# Altium schematic symbol library Main.SchLib: 35 symbols
Pins are listed as number, name and electrical type; pins without a type are passive.

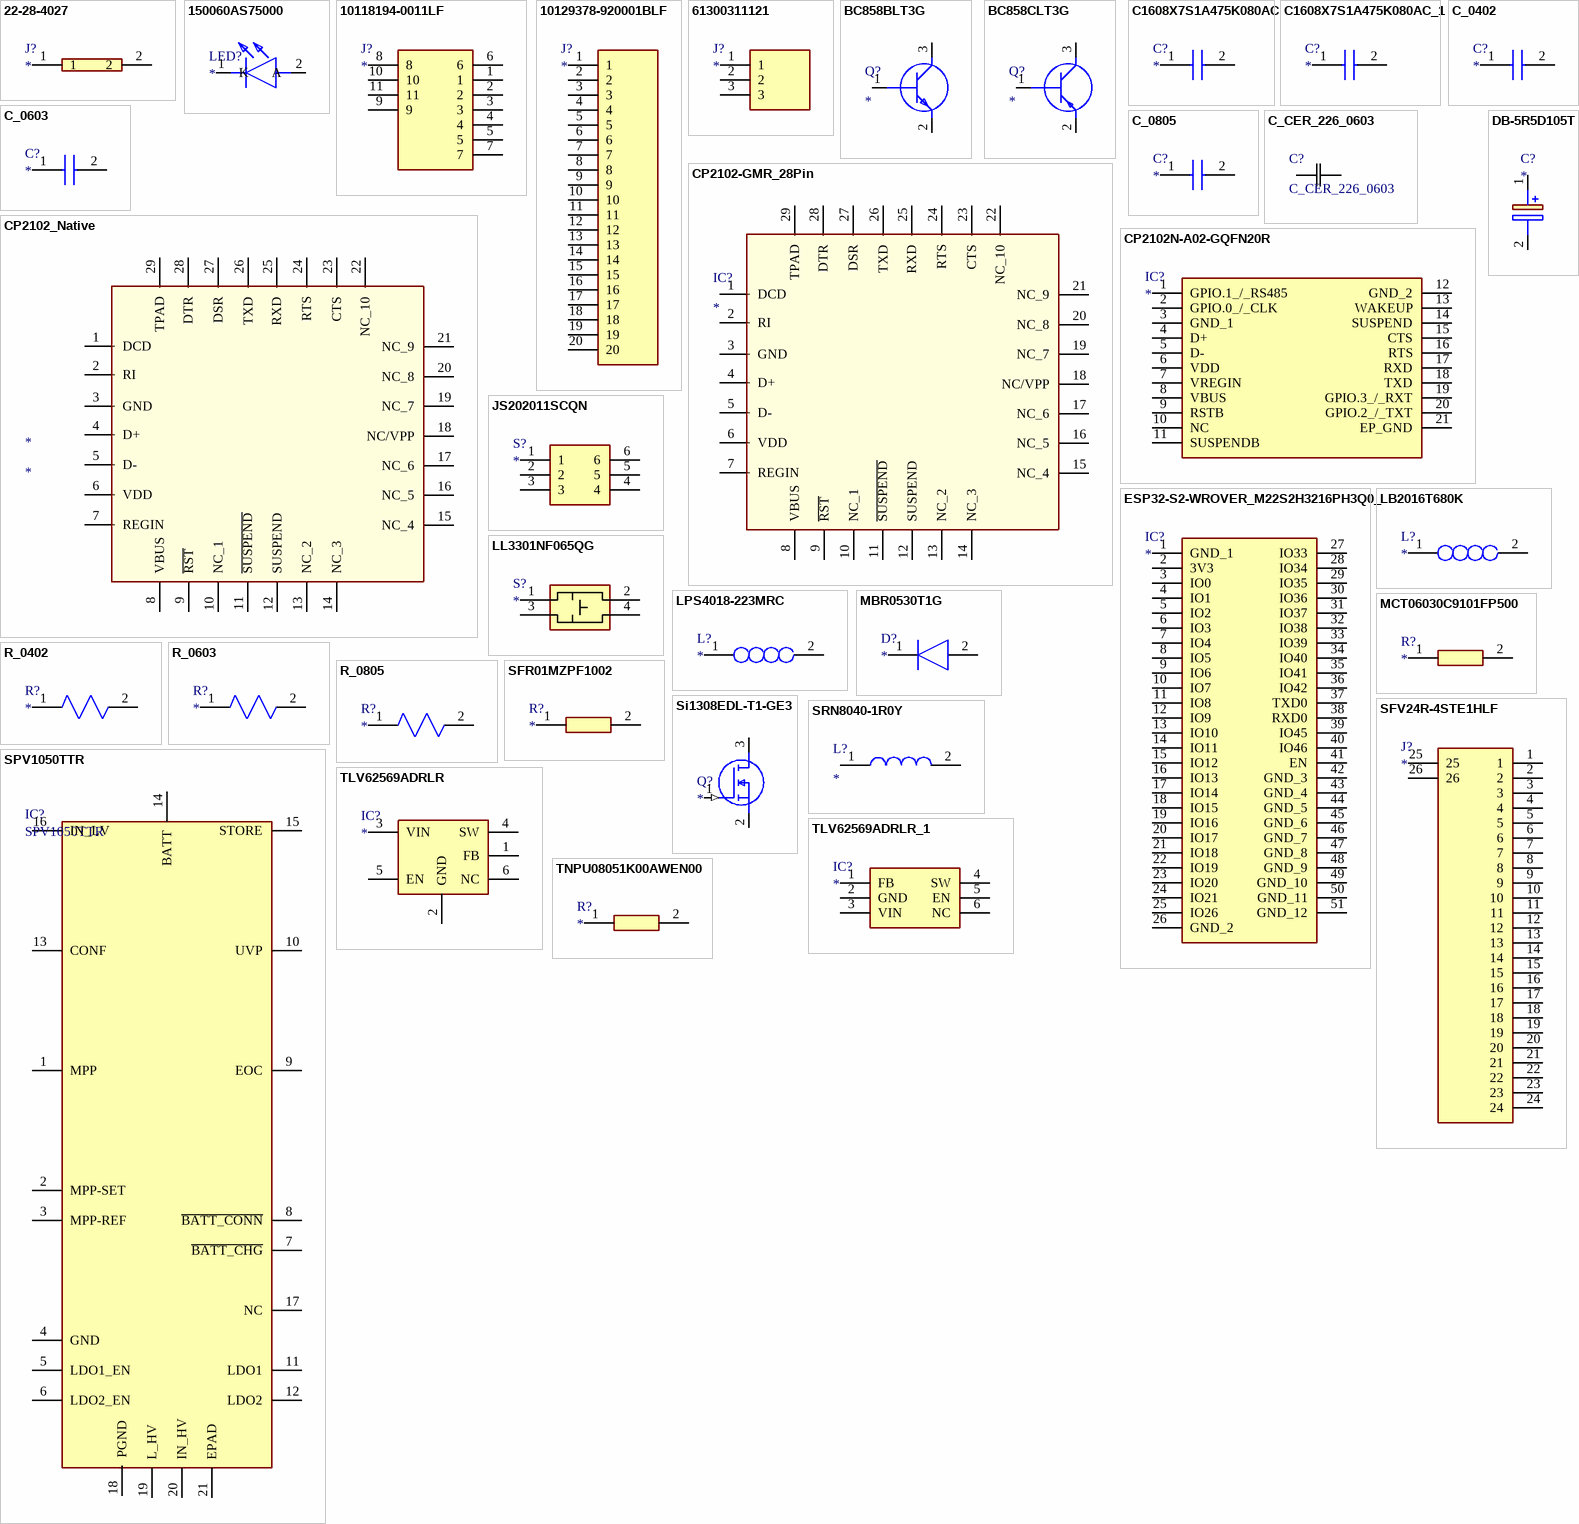
[diagram p0: symbols 22-28-4027 to TNPU08051K00AWEN00]

## 22-28-4027
designator J?
Connector; Manufacturer_Name: Molex; Datasheet Link: https://componentsearchengine.com//22-28-4027.pdf; Height: 10.67mm; Mouser2 Part Number: 538-22-28-4027; Mouser2 Price/Stock: https://www.mouser.com/Search/Refine.aspx?Keyword=538-22-28-4027; Manufacturer_Part_Number: 22-28-4027
footprint HDRV2W66P0X254_1X2_508X249X1067P
pins: 1, 2

## 150060AS75000
designator LED?
LED; Manufacturer_Name: Wurth Elektronik; Manufacturer_Part_Number: 150060AS75000; Datasheet Link: https://componentsearchengine.com/Datasheets/2/150060AS75000.pdf; Height: 0.8mm
footprint LEDC1608X80N
pins: 1 K, 2 A

## 10118194-0011LF
designator J?
Connector; Manufacturer_Name: Amphenol; Manufacturer_Part_Number: 10118194-0011LF; Datasheet Link: https://cdn.amphenol-icc.com/media/wysiwyg/files/drawing/10118194.pdf; Height: 2mm
footprint 101181940011LF
pins: 1, 2, 3, 4, 5, 6, 7, 8, 9, 10, 11

## 10129378-920001BLF
designator J?
Connector; Manufacturer_Name: Amphenol; Manufacturer_Part_Number: 10129378-920001BLF; Datasheet Link: https://cdn.amphenol-icc.com/media/wysiwyg/files/drawing/10129378.pdf; Height: 8.58mm
footprint HDRV20W67P0X254_1X20_5080X241X858P
pins: 1, 2, 3, 4, 5, 6, 7, 8, 9, 10, 11, 12, 13, 14, 15, 16, 17, 18, 19, 20

## 61300311121
designator J?
Connector; Manufacturer_Name: Wurth Elektronik; Manufacturer_Part_Number: 61300311121; Datasheet Link: https://componentsearchengine.com//61300311121.pdf; Height: 8.69mm; Mouser2 Part Number: 710-61300311121; Mouser2 Price/Stock: https://www.mouser.com/Search/Refine.aspx?Keyword=710-61300311121
footprint HDRV3W95P0X254_1X3_762X254X869P
pins: 1, 2, 3

## BC858BLT3G
designator Q?
Transistor BJT PNP; Manufacturer_Name: ON Semiconductor; Manufacturer_Part_Number: BC858BLT3G; Datasheet Link: https://www.onsemi.com/pub/Collateral/BC856ALT1-D.PDF; Height: 1.11mm
footprint SOT96P237X111-3N
pins: 1 B, 2 E, 3 C

## BC858CLT3G
designator Q?
Transistor BJT PNP; Manufacturer_Name: ON Semiconductor; Manufacturer_Part_Number: BC858CLT3G; Datasheet Link: https://componentsearchengine.com//BC858CLT3G.pdf; Mouser2 Part Number: 863-BC858CLT3G; Mouser2 Price/Stock: https://www.mouser.com/Search/Refine.aspx?Keyword=863-BC858CLT3G
footprint BC858CLT3G
pins: 1 B, 2 E, 3 C

## C1608X7S1A475K080AC
designator C?
Capacitor; Manufacturer_Name: TDK; Manufacturer_Part_Number: C1608X7S1A475K080AC; Datasheet Link: https://product.tdk.com/info/en/catalog/datasheets/mlcc_commercial_midvoltage_en.pdf; Height: 0.9mm
footprint CAPC1608X90N
pins: 1, 2

## C1608X7S1A475K080AC_1
designator C?
Capacitor; Manufacturer_Name: TDK; Manufacturer_Part_Number: C1608X7S1A475K080AC; Datasheet Link: https://product.tdk.com/info/en/catalog/datasheets/mlcc_commercial_midvoltage_en.pdf; Height: 0.9mm
footprint CAPC1608X90N
pins: 1, 2

## C_0402
designator C?
Resistor; Manufacturer_Name: Vishay; Manufacturer_Part_Number: CRCW0402100KFKED; Datasheet Link: http://www.vishay.com/docs/20035/dcrcwe3.pdf; Height: 0.4mm
footprint RESC1005X40N
pins: 1, 2

## C_0603
designator C?
Resistor; Manufacturer_Name: Vishay; Manufacturer_Part_Number: CRCW0402100KFKED; Datasheet Link: http://www.vishay.com/docs/20035/dcrcwe3.pdf; Height: 0.4mm
pins: 1, 2

## C_0805
designator C?
Resistor; Manufacturer_Name: Vishay; Datasheet Link: http://www.vishay.com/docs/20035/dcrcwe3.pdf; Height: 0.4mm
pins: 1, 2

## C_CER_226_0603
designator C?
Manufacturer_Part_Number: GRM188R60J226MEA0D; Vendor: Murata; SourceLibrary: Murata_2014-12-31; Type: DEV; Copyright: Copyright (C) 2015 Accelerated Designs. All rights reserved; RefDes: RefDes
footprint CAPC1608X90N
pins: 1, 2

## CP2102-GMR_28Pin
designator IC?
Integrated Circuit; Manufacturer_Name: Silicon Labs; Manufacturer_Part_Number: CP2102-GMR; Datasheet Link: https://www.silabs.com/Support%20Documents/TechnicalDocs/CP2102-9.pdf; Height: 1mm
footprint QFN50P500X500X100-29N-D
pins: 1 DCD, 2 RI, 3 GND, 4 D+, 5 D-, 6 VDD, 7 REGIN, 8 VBUS, 9 ~{RST}, 10 NC_1, 11 ~{SUSPEND}, 12 SUSPEND, 13 NC_2, 14 NC_3, 15 NC_4, 16 NC_5, 17 NC_6, 18 NC/VPP, 19 NC_7, 20 NC_8, 21 NC_9, 22 NC_10, 23 CTS, 24 RTS, 25 RXD, 26 TXD, 27 DSR, 28 DTR, 29 TPAD

## CP2102_Native
designator *
pins: 1 DCD, 2 RI, 3 GND, 4 D+, 5 D-, 6 VDD, 7 REGIN, 8 VBUS, 9 ~{RST}, 10 NC_1, 11 ~{SUSPEND}, 12 SUSPEND, 13 NC_2, 14 NC_3, 15 NC_4, 16 NC_5, 17 NC_6, 18 NC/VPP, 19 NC_7, 20 NC_8, 21 NC_9, 22 NC_10, 23 CTS, 24 RTS, 25 RXD, 26 TXD, 27 DSR, 28 DTR, 29 TPAD

## CP2102N-A02-GQFN20R
designator IC?
Integrated Circuit; Manufacturer_Name: Silicon Labs; Manufacturer_Part_Number: CP2102N-A02-GQFN20R; Datasheet Link: https://componentsearchengine.com//CP2102N-A02-GQFN20R.pdf; Height: 0.8mm; Mouser2 Part Number: 634-CP2102NA02QFN20R; Mouser2 Price/Stock: https://www.mouser.com/Search/Refine.aspx?Keyword=634-CP2102NA02QFN20R
footprint CP2102NA02GQFN20
pins: 1 GPIO.1_/_RS485, 2 GPIO.0_/_CLK, 3 GND_1, 4 D+, 5 D-, 6 VDD, 7 VREGIN, 8 VBUS, 9 RSTB, 10 NC, 11 SUSPENDB, 12 GND_2, 13 WAKEUP, 14 SUSPEND, 15 CTS, 16 RTS, 17 RXD, 18 TXD, 19 GPIO.3_/_RXT, 20 GPIO.2_/_TXT, 21 EP_GND

## DB-5R5D105T
designator C?
Capacitor Polarised; Manufacturer_Name: Elna; Manufacturer_Part_Number: DB-5R5D105T; Datasheet Link: https://componentsearchengine.com//DB-5R5D105T.pdf; Height: 8mm; Mouser2 Part Number: 555-DB-5R5D105T; Mouser2 Price/Stock: https://www.mouser.com/Search/Refine.aspx?Keyword=555-DB-5R5D105T
footprint CAPPRD500W130D2150H800
pins: 1 +, 2 -

## ESP32-S2-WROVER_M22S2H3216PH3Q0_
designator IC?
Integrated Circuit; Manufacturer_Name: Espressif Systems; Manufacturer_Part_Number: ESP32-S2-WROVER(M22S2H3216PH3Q0); Datasheet Link: https://www.espressif.com/sites/default/files/documentation/esp32-s2-wrover_esp32-s2-wrover-i_datasheet_en.pdf; Height: 3.45mm
footprint ESP32S2WROVERM22S2H3216PH3Q0
pins: 1 GND_1, 2 3V3, 3 IO0, 4 IO1, 5 IO2, 6 IO3, 7 IO4, 8 IO5, 9 IO6, 10 IO7, 11 IO8, 12 IO9, 13 IO10, 14 IO11, 15 IO12, 16 IO13, 17 IO14, 18 IO15, 19 IO16, 20 IO17, 21 IO18, 22 IO19, 23 IO20, 24 IO21, 25 IO26, 26 GND_2, 27 IO33, 28 IO34, 29 IO35, 30 IO36, 31 IO37, 32 IO38, 33 IO39, 34 IO40, 35 IO41, 36 IO42, 37 TXD0, 38 RXD0, 39 IO45, 40 IO46, 41 EN, 42 GND_3, 43 GND_4, 44 GND_5, 45 GND_6, 46 GND_7, 47 GND_8, 48 GND_9, 49 GND_10, 50 GND_11, 51 GND_12

## JS202011SCQN
designator S?
Switch; Manufacturer_Name: C & K COMPONENTS; Manufacturer_Part_Number: JS202011SCQN; Datasheet Link: https://componentsearchengine.com//JS202011SCQN.pdf; Mouser2 Part Number: 611-JS202011SCQN; Mouser2 Price/Stock: https://www.mouser.com/Search/Refine.aspx?Keyword=611-JS202011SCQN
footprint JS202011SCQN
pins: 1, 2, 3, 4, 5, 6

## LB2016T680K
designator L?
Inductor; Manufacturer_Name: TAIYO YUDEN; Manufacturer_Part_Number: LB2016T680K; Datasheet Link: https://www.arrow.com/en/products/lb2016t680k/taiyo-yuden; Height: 1.8mm; Arrow Part Number: LB2016T680K
footprint INDC2218X180N
pins: 1, 2

## LL3301NF065QG
designator S?
Switch; Manufacturer_Name: E-Switch; Manufacturer_Part_Number: LL3301NF065QG; Datasheet Link: https://componentsearchengine.com//LL3301NF065QG.pdf; Height: 4mm; Mouser2 Part Number: 612-LL3301NF065QG; Mouser2 Price/Stock: https://www.mouser.com/Search/Refine.aspx?Keyword=612-LL3301NF065QG
footprint LL3301NF065QG
pins: 1, 2, 3, 4

## LPS4018-223MRC
designator L?
Inductor; Manufacturer_Name: COILCRAFT; Manufacturer_Part_Number: LPS4018-223MRC; Datasheet Link: https://componentsearchengine.com//LPS4018-223MRC.pdf; Height: 1.8mm; Mouser2 Part Number: 994-LPS4018-223MRC; Mouser2 Price/Stock: https://www.mouser.com/Search/Refine.aspx?Keyword=994-LPS4018-223MRC
footprint LPS4018223MRC
footprint LPS4018223MRC
pins: 1, 2

## MBR0530T1G
designator D?
Diode; Manufacturer_Name: ON Semiconductor; Manufacturer_Part_Number: MBR0530T1G; Datasheet Link: https://componentsearchengine.com//MBR0530T1G.pdf; Height: 1.35mm; Mouser2 Part Number: 863-MBR0530T1G; Mouser2 Price/Stock: https://www.mouser.com/Search/Refine.aspx?Keyword=863-MBR0530T1G
footprint SOD3716X135N
pins: 1 K, 2 A

## MCT06030C9101FP500
designator R?
Resistor; Manufacturer_Name: Vishay; Manufacturer_Part_Number: MCT06030C9101FP500; Datasheet Link: http://www.vishay.com/docs/28705/mcx0x0xpro.pdf; Height: 0.55mm
footprint RESC1608X55N
pins: 1, 2

## R_0402
designator R?
Resistor; Manufacturer_Name: Vishay; Manufacturer_Part_Number: CRCW0402100KFKED; Datasheet Link: http://www.vishay.com/docs/20035/dcrcwe3.pdf; Height: 0.4mm
footprint RESC1005X40N
pins: 1, 2

## R_0603
designator R?
Resistor; Manufacturer_Name: Vishay; Manufacturer_Part_Number: CRCW0402100KFKED; Datasheet Link: http://www.vishay.com/docs/20035/dcrcwe3.pdf; Height: 0.4mm
pins: 1, 2

## R_0805
designator R?
Resistor; Manufacturer_Name: Vishay; Datasheet Link: http://www.vishay.com/docs/20035/dcrcwe3.pdf; Height: 0.4mm
footprint RESC2012X55N
pins: 1, 2

## SFR01MZPF1002
designator R?
Resistor; Manufacturer_Name: ROHM Semiconductor; Manufacturer_Part_Number: SFR01MZPF1002; Datasheet Link: https://componentsearchengine.com/Datasheets/1/SFR01MZPF1002.pdf; Height: 0.4mm
footprint RESC1005X40N
pins: 1, 2

## SFV24R-4STE1HLF
designator J?
Connector; Manufacturer_Name: Amphenol; Manufacturer_Part_Number: SFV24R-4STE1HLF; Datasheet Link: https://www.mouser.co.uk/datasheet/2/18/10117319-1361747.pdf; Height: 2mm
footprint SFV24R4STE1HLF
pins: 1, 2, 3, 4, 5, 6, 7, 8, 9, 10, 11, 12, 13, 14, 15, 16, 17, 18, 19, 20, 21, 22, 23, 24, 25, 26

## Si1308EDL-T1-GE3
designator Q?
MOSFET (N-Channel); Manufacturer_Name: Vishay; Manufacturer_Part_Number: Si1308EDL-T1-GE3; Datasheet Link: https://componentsearchengine.com//SI1308EDL-T1-GE3.pdf; Height: 1.1mm; Mouser2 Part Number: 78-SI1308EDL-T1-GE3; Mouser2 Price/Stock: https://www.mouser.com/Search/Refine.aspx?Keyword=78-SI1308EDL-T1-GE3
footprint SOT65P210X110-3N
pins: 1 G (in), 2 S (io), 3 D (io)

## SPV1050TTR
designator IC?
Integrated Circuit; Manufacturer_Name: STMicroelectronics; Datasheet Link: https://componentsearchengine.com//SPV1050TTR.pdf; Height: 1mm; Mouser2 Part Number: 511-SPV1050TTR; Mouser2 Price/Stock: https://www.mouser.com/Search/Refine.aspx?Keyword=511-SPV1050TTR; Manufacturer_Part_Number: SPV1050TTR
footprint QFN40P300X300X100-21N-D
pins: 1 MPP, 2 MPP-SET, 3 MPP-REF, 4 GND, 5 LDO1_EN, 6 LDO2_EN, 7 ~{BATT_CHG}, 8 ~{BATT_CONN}, 9 EOC, 10 UVP, 11 LDO1, 12 LDO2, 13 CONF, 14 BATT, 15 STORE, 16 IN_LV, 17 NC, 18 PGND, 19 L_HV, 20 IN_HV, 21 EPAD

## SRN8040-1R0Y
designator L?
Inductor; Manufacturer_Name: Bourns; Manufacturer_Part_Number: SRN8040-1R0Y; Datasheet Link: https://www.bourns.com/pdfs/SRN8040.pdf; Height: 4mm
footprint SRN80408R2Y
pins: 1, 2

## TLV62569ADRLR
designator IC?
Integrated Circuit; Manufacturer_Name: Texas Instruments; Manufacturer_Part_Number: TLV62569ADRLR; Datasheet Link: http://www.ti.com/lit/gpn/tlv62569a; Height: 0.6mm
footprint SOTFL50P160X60-6N
pins: 1 FB, 2 GND, 3 VIN, 4 SW, 5 EN, 6 NC

## TLV62569ADRLR_1
designator IC?
Integrated Circuit; Manufacturer_Name: Texas Instruments; Manufacturer_Part_Number: TLV62569ADRLR; Datasheet Link: http://www.ti.com/lit/gpn/tlv62569a; Height: 0.6mm
footprint SOTFL50P160X60-6N
pins: 1 FB, 2 GND, 3 VIN, 4 SW, 5 EN, 6 NC

## TNPU08051K00AWEN00
designator R?
Resistor; Manufacturer_Name: Vishay; Manufacturer_Part_Number: TNPU08051K00AWEN00; Datasheet Link: https://www.mouser.es/ProductDetail/Vishay-Dale/TNPU08051K00AWEN00?qs=sGAEpiMZZMvdGkrng054twKDKoBh%252Bscnwh7yGacEGgbYsiveq1NCcg%3D%3D; Height: 0.55mm
footprint RESC2012X55N
pins: 1, 2